# Altium footprint library LTST-C191KGKT.PcbLib: 3 footprints
Each footprint in its own frame and in the unit in brackets; x right, y up, seen from the top. Pads: shape width x height; smd on the part's side, far side on the other; paste and mask are expansions set on the pad; w line width, h text height; cw(c..) or ccw(c..) is an arc to the next point about the centre after c.
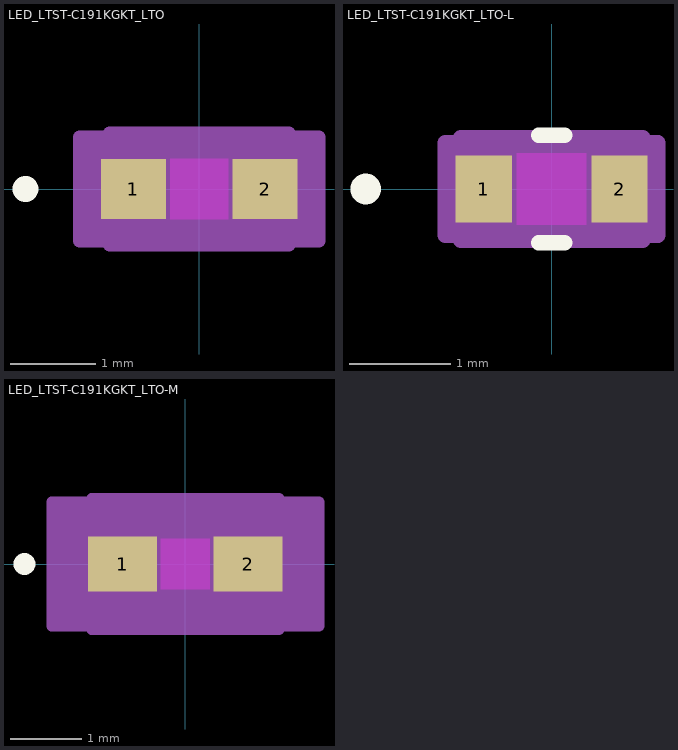
[diagram p0: the footprints below, top view; thin cyan lines are the x and y axes]

## LED_LTST-C191KGKT_LTO [mil]
pads (2):
  rect 30x28 smd paste+0 mask+0: 1(-30.5,0) 2(30.5,0)
Top Layer keep-out:
  region: -13.5,-14 -13.5,14 13.5,14 13.5,-14
Top Overlay:
  circle w6: c-80.5,0 r3
Keep-Out Layer:
  region: -13.5,-14 -13.5,14 13.5,14 13.5,-14
Mechanical 13:
  circle w0: c-30.5,0 r3
  lines w1: -31.5,-14 -31.5,14 ; -31.5,-14 -31.5,14 ; -31.5,-14 -31.5,-14 ; -31.5,14 -31.5,14 ; 31.5,-14 31.5,14 ; 31.5,-14 31.5,-14 ; 31.5,-14 31.5,14 ; 31.5,14 31.5,14 ; -31.5,-16 31.5,-16 31.5,16 -31.5,16 -31.5,-16
Mechanical 15:
  region: -41.5,-24 -55.5,-24 -55.5,24 -41.5,24 -41.5,26 41.5,26 41.5,24 55.5,24 55.5,-24 41.5,-24 41.5,-26 -41.5,-26
  lines w6: -55.5,-24 -55.5,24 -41.5,24 -41.5,26 41.5,26 41.5,24 55.5,24 55.5,-24 41.5,-24 41.5,-26 -41.5,-26 -41.5,-24 -55.5,-24
3D body "LED_LTST-C191KGKT_LTO.step": height 22.09, standoff 0, extent -31.5,-15.98 31.5,15.98

## LED_LTST-C191KGKT_LTO-L [mil]
pads (2):
  rect 22x26 smd paste+0 mask+0: 1(-26.5,0) 2(26.5,0)
Top Layer keep-out:
  region: -13.5,-14 -13.5,14 13.5,14 13.5,-14
Top Overlay:
  circle w6: c-72.5,0 r3
  lines w6: -5.13,-21 5.13,-21 ; -5.13,21 5.13,21
Keep-Out Layer:
  region: -13.5,-14 -13.5,14 13.5,14 13.5,-14
Mechanical 13:
  circle w0: c-26.5,0 r3
  lines w1: -31.5,-14 -31.5,14 ; -31.5,-14 -31.5,14 ; -31.5,-14 -31.5,-14 ; -31.5,14 -31.5,14 ; 31.5,-14 31.5,14 ; 31.5,-14 31.5,-14 ; 31.5,-14 31.5,14 ; 31.5,14 31.5,14 ; -31.5,-16 31.5,-16 31.5,16 -31.5,16 -31.5,-16
Mechanical 15:
  region: -35.5,-18 -41.5,-18 -41.5,18 -35.5,18 -35.5,20 35.5,20 35.5,18 41.5,18 41.5,-18 35.5,-18 35.5,-20 -35.5,-20
  lines w6: -41.5,-18 -41.5,18 -35.5,18 -35.5,20 35.5,20 35.5,18 41.5,18 41.5,-18 35.5,-18 35.5,-20 -35.5,-20 -35.5,-18 -41.5,-18
3D body "LED_LTST-C191KGKT_LTO.step": height 22.09, standoff 0, extent -31.5,-15.98 31.5,15.98

## LED_LTST-C191KGKT_LTO-M [mil]
pads (2):
  rect 38x30 smd paste+0 mask+0: 1(-34.5,0) 2(34.5,0)
Top Layer keep-out:
  region: -13.5,-14 -13.5,14 13.5,14 13.5,-14
Top Overlay:
  circle w6: c-88.5,0 r3
Keep-Out Layer:
  region: -13.5,-14 -13.5,14 13.5,14 13.5,-14
Mechanical 13:
  circle w0: c-34.5,0 r3
  lines w1: -31.5,-14 -31.5,14 ; -31.5,-14 -31.5,14 ; -31.5,-14 -31.5,-14 ; -31.5,14 -31.5,14 ; 31.5,-14 31.5,14 ; 31.5,-14 31.5,-14 ; 31.5,-14 31.5,14 ; 31.5,14 31.5,14 ; -31.5,-16 31.5,-16 31.5,16 -31.5,16 -31.5,-16
Mechanical 15:
  region: -51.5,-34 -73.5,-34 -73.5,34 -51.5,34 -51.5,36 51.5,36 51.5,34 73.5,34 73.5,-34 51.5,-34 51.5,-36 -51.5,-36
  lines w6: -73.5,-34 -73.5,34 -51.5,34 -51.5,36 51.5,36 51.5,34 73.5,34 73.5,-34 51.5,-34 51.5,-36 -51.5,-36 -51.5,-34 -73.5,-34
3D body "LED_LTST-C191KGKT_LTO.step": height 22.09, standoff 0, extent -31.5,-15.98 31.5,15.98